# Altium footprint library Amphenol_Coaxial_Connectors.PcbLib: 1 footprints
Each footprint in its own frame and in the unit in brackets; x right, y up, seen from the top. Pads: shape width x height; smd on the part's side, far side on the other; paste and mask are expansions set on the pad; w line width, h text height; cw(c..) or ccw(c..) is an arc to the next point about the centre after c.
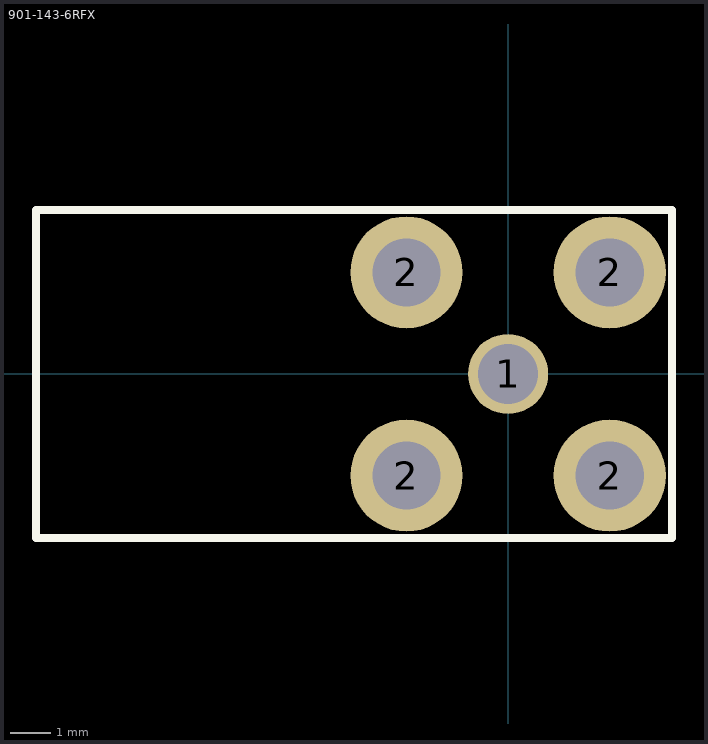
[diagram p0: the footprint, top view; thin cyan lines are the x and y axes]

## 901-143-6RFX [mm] "RF Connector, SMA Right Angle PCB Jack, 50 Ohm"
pads (5):
  round 2 hole 1.5: 1(0,0)
  round 2.8 hole 1.7: 2(-2.54,-2.54) 2(-2.54,2.54) 2(2.54,-2.54) 2(2.54,2.54)
Top Overlay:
  lines w0.2: -11.8,-4.1 4.1,-4.1 4.1,4.1 -11.8,4.1 -11.8,-4.1
3D body "901_143_6rfx_3d_model_file.STEP": height 10, standoff -3.8, extent -11.6,-3.5 3.5,3.5